# Altium footprint library Var_Res.PcbLib: 1 footprints
Each footprint in its own frame and in the unit in brackets; x right, y up, seen from the top. Pads: shape width x height; smd on the part's side, far side on the other; paste and mask are expansions set on the pad; w line width, h text height; cw(c..) or ccw(c..) is an arc to the next point about the centre after c.
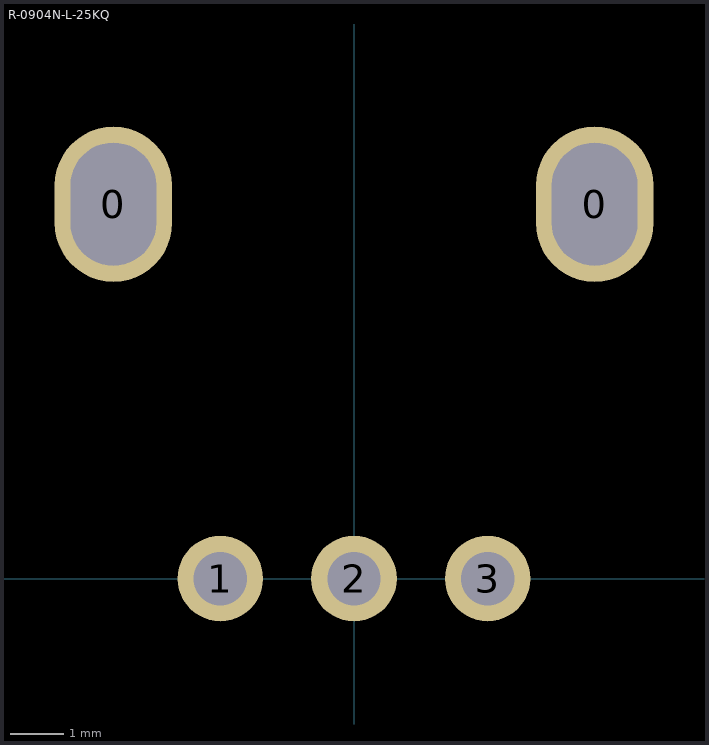
[diagram p0: the footprint, top view; thin cyan lines are the x and y axes]

## R-0904N-L-25KQ [mm]
pads (5):
  rrect100% 2.2x2.9 hole 2.3 slot 1.6 at 0 deg: 0(-4.5,7) 0(4.5,7)
  round 1.6 hole 1: 1(-2.5,0) 2(0,0) 3(2.5,0)
3D body "R-0904N-L-25KQ.STEP": height 25, standoff -3.8, extent -5.661,-0.1 5.661,12.5